# Altium footprint library DAP0032A_L.PcbLib: 1 footprints
Each footprint in its own frame and in the unit in brackets; x right, y up, seen from the top. Pads: shape width x height; smd on the part's side, far side on the other; paste and mask are expansions set on the pad; w line width, h text height; cw(c..) or ccw(c..) is an arc to the next point about the centre after c.
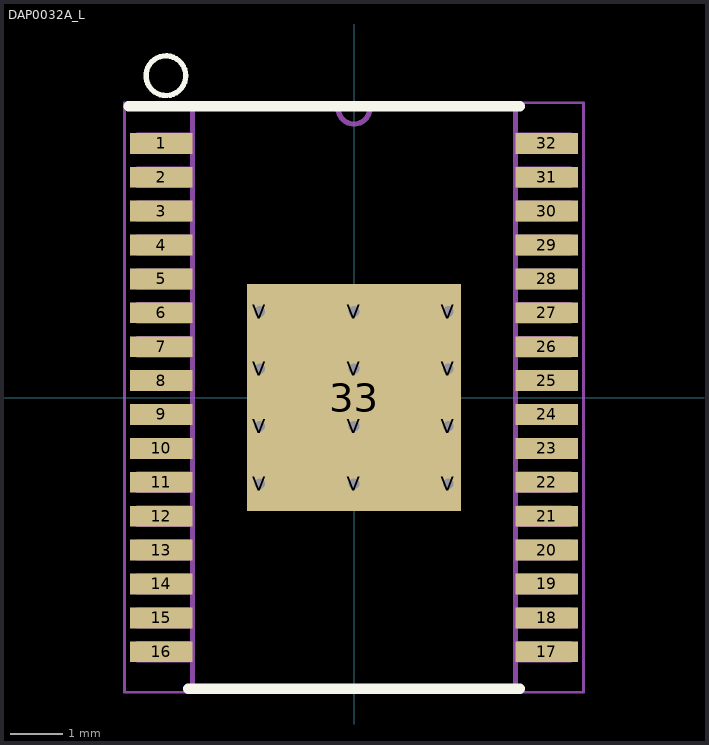
[diagram p0: the footprint, top view; thin cyan lines are the x and y axes]

## DAP0032A_L [mm]
pads (45):
  rect 1.2x0.4 smd paste+0 mask+0.051: 1(-3.7,4.875) 2(-3.7,4.225) 3(-3.7,3.575) 4(-3.7,2.925) 5(-3.7,2.275) 6(-3.7,1.625) 7(-3.7,0.975) 8(-3.7,0.325) 9(-3.7,-0.325) 10(-3.7,-0.975) 11(-3.7,-1.625) 12(-3.7,-2.275) 13(-3.7,-2.925) 14(-3.7,-3.575) 15(-3.7,-4.225) 16(-3.7,-4.875) 17(3.7,-4.875) 18(3.7,-4.225) 19(3.7,-3.575) 20(3.7,-2.925) 21(3.7,-2.275) 22(3.7,-1.625) 23(3.7,-0.975) 24(3.7,-0.325) 25(3.7,0.325) 26(3.7,0.975) 27(3.7,1.625) 28(3.7,2.275) 29(3.7,2.925) 30(3.7,3.575) 31(3.7,4.225) 32(3.7,4.875)
  rect 4.11x4.36 smd paste+0 mask+0.051: 33(0,0)
  round 0.5 / inner round 1.524 / far side round 0.5 hole 0.203 mask+0.051: V(-1.805,-1.65) V(-1.805,-0.55) V(-1.805,0.55) V(-1.805,1.65) V(0,-1.65) V(0,-0.55) V(0,0.55) V(0,1.65) V(1.805,-1.65) V(1.805,-0.55) V(1.805,0.55) V(1.805,1.65)
Top Overlay:
  circle w0.102: c-3.607,6.172 r0.381
  lines w0.2: -4.318,5.588 -0.305,5.588 0.305,5.588 3.175,5.588 ; -3.175,-5.588 3.175,-5.588
Mechanical 13:
  lines w0.102: -0.305,5.55 ccw(c0,5.55) 0.305,5.55 ; -4.153,-5.027 -3.099,-5.027 -3.099,-4.723 -4.153,-4.723 -4.153,-5.027 ; -4.153,-4.377 -3.099,-4.377 -3.099,-4.073 -4.153,-4.073 -4.153,-4.377 ; -4.153,-3.727 -3.099,-3.727 -3.099,-3.423 -4.153,-3.423 -4.153,-3.727 ; -4.153,-3.077 -3.099,-3.077 -3.099,-2.773 -4.153,-2.773 -4.153,-3.077 ; -4.153,-2.427 -3.099,-2.427 -3.099,-2.123 -4.153,-2.123 -4.153,-2.427 ; -4.153,-1.777 -3.099,-1.777 -3.099,-1.473 -4.153,-1.473 -4.153,-1.777 ; -4.153,-1.127 -3.099,-1.127 -3.099,-0.823 -4.153,-0.823 -4.153,-1.127 ; -4.153,-0.477 -3.099,-0.477 -3.099,-0.173 -4.153,-0.173 -4.153,-0.477 ; -4.153,0.173 -3.099,0.173 -3.099,0.477 -4.153,0.477 -4.153,0.173 ; -4.153,0.823 -3.099,0.823 -3.099,1.127 -4.153,1.127 -4.153,0.823 ; -4.153,1.473 -3.099,1.473 -3.099,1.777 -4.153,1.777 -4.153,1.473 ; -4.153,2.123 -3.099,2.123 -3.099,2.427 -4.153,2.427 -4.153,2.123 ; -4.153,2.773 -3.099,2.773 -3.099,3.077 -4.153,3.077 -4.153,2.773 ; -4.153,3.423 -3.099,3.423 -3.099,3.727 -4.153,3.727 -4.153,3.423 ; -4.153,4.073 -3.099,4.073 -3.099,4.377 -4.153,4.377 -4.153,4.073 ; -4.153,4.723 -3.099,4.723 -3.099,5.027 -4.153,5.027 -4.153,4.723 ; -3.099,-5.55 3.099,-5.55 3.099,5.55 -3.099,5.55 -3.099,-5.55 ; 3.099,-5.027 4.153,-5.027 4.153,-4.723 3.099,-4.723 3.099,-5.027 ; 3.099,-4.377 4.153,-4.377 4.153,-4.073 3.099,-4.073 3.099,-4.377 ; 3.099,-3.727 4.153,-3.727 4.153,-3.423 3.099,-3.423 3.099,-3.727 ; 3.099,-3.077 4.153,-3.077 4.153,-2.773 3.099,-2.773 3.099,-3.077 ; 3.099,-2.427 4.153,-2.427 4.153,-2.123 3.099,-2.123 3.099,-2.427 ; 3.099,-1.777 4.153,-1.777 4.153,-1.473 3.099,-1.473 3.099,-1.777 ; 3.099,-1.127 4.153,-1.127 4.153,-0.823 3.099,-0.823 3.099,-1.127 ; 3.099,-0.477 4.153,-0.477 4.153,-0.173 3.099,-0.173 3.099,-0.477 ; 3.099,0.173 4.153,0.173 4.153,0.477 3.099,0.477 3.099,0.173 ; 3.099,0.823 4.153,0.823 4.153,1.127 3.099,1.127 3.099,0.823 ; 3.099,1.473 4.153,1.473 4.153,1.777 3.099,1.777 3.099,1.473 ; 3.099,2.123 4.153,2.123 4.153,2.427 3.099,2.427 3.099,2.123 ; 3.099,2.773 4.153,2.773 4.153,3.077 3.099,3.077 3.099,2.773 ; 3.099,3.423 4.153,3.423 4.153,3.727 3.099,3.727 3.099,3.423 ; 3.099,4.073 4.153,4.073 4.153,4.377 3.099,4.377 3.099,4.073 ; 3.099,4.723 4.153,4.723 4.153,5.027 3.099,5.027 3.099,4.723
Mechanical 15:
  lines w0.05: -4.4,-5.65 -4.4,5.65 4.4,5.65 4.4,-5.65 -4.4,-5.65
  lines w0.1: -0.5,0 0.5,0 ; 0,-0.5 0,0.5
3D body: height 0.25, standoff 0, extent 0,0 0.254,0.254
3D body "User Library-TSSOP-32 11_1x6_2.STEP": height 1.05, standoff -0.05, extent -4.075,-5.55 4.025,5.55